# EAGLE library part IDG1215 (library SparkFun-Sensors)
Invensense IDG1215 Dual-Axis 67 °/s Gyro he IDG-1215 is an integrated dual-axis angular rate sensor (gyroscope). It uses InvenSense’s proprietary and patented MEMS technology with vertically driven, vibrating masses to make a functionally complete, low-cost, dual-axis angular rate sensor. All required electronics are integrated onto a single chip with the sensor. Datasheet <http://www.sparkfun.com/datasheets/Components/SMD/Datasheet_IDG1215.pdf> SparkFun Products Dual Axis Gyro - IDG1215 <https://www.sparkfun.com/products/9071> (COM-09071) Gyro Breakout Board - IDG1215 Dual 67°/s <https://www.sparkfun.com/products/9093> (SEN-09093)
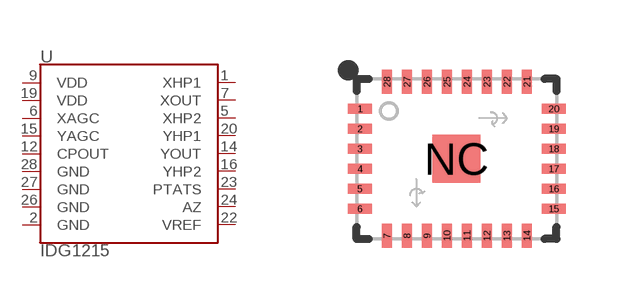
[diagram p6: symbol with the pads of QFN-28; footprint QFN-28]

Designator prefix U

## IDG1215 (PROD_ID: IC-09061; SF_ID: COM-09071)  [QFN-28]
1  XHP1
2  GND
5  XHP2
6  XAGC
7  XOUT
9  VDD
12  CPOUT
14  YOUT
15  YAGC
16  YHP2
19  VDD
20  YHP1
22  VREF
23  PTATS
24  AZ
26  GND
27  GND
28  GND

## Footprint QFN-28 (pad centres in mm)
28-Pin QFN w/ Center Pad (5 x 4 mm) Datasheet <https://www.sparkfun.com/datasheets/Components/SMD/Datasheet_IDG1215.pdf> Specifications: Pin Count: 28 Dimensions: 4.0 x 5.0 x 1.15 mm Pitch: 0.5 mm Devices Using: IDG1215
smd 0.6 x 0.25: 1 -2.417,1.25; 2 -2.417,0.75; 3 -2.417,0.25; 4 -2.417,-0.25; 5 -2.417,-0.75; 6 -2.417,-1.25; 15 2.433,-1.25; 16 2.433,-0.75; 17 2.433,-0.25; 18 2.433,0.25; 19 2.433,0.75; 20 2.433,1.25
smd 0.25 x 0.6: 7 -1.742,-1.925; 8 -1.242,-1.925; 9 -0.742,-1.925; 10 -0.242,-1.925; 11 0.258,-1.925; 12 0.758,-1.925; 13 1.258,-1.925; 14 1.758,-1.925; 21 1.758,1.925; 22 1.258,1.925; 23 0.758,1.925; 24 0.258,1.925; 25 -0.242,1.925; 26 -0.742,1.925; 27 -1.242,1.925; 28 -1.742,1.925
smd 1.2 x 1.2: NC 0,0